# Altium footprint library Capy_extra.PcbLib: 7 footprints
Each footprint in its own frame and in the unit in brackets; x right, y up, seen from the top. Pads: shape width x height; smd on the part's side, far side on the other; paste and mask are expansions set on the pad; w line width, h text height; cw(c..) or ccw(c..) is an arc to the next point about the centre after c.
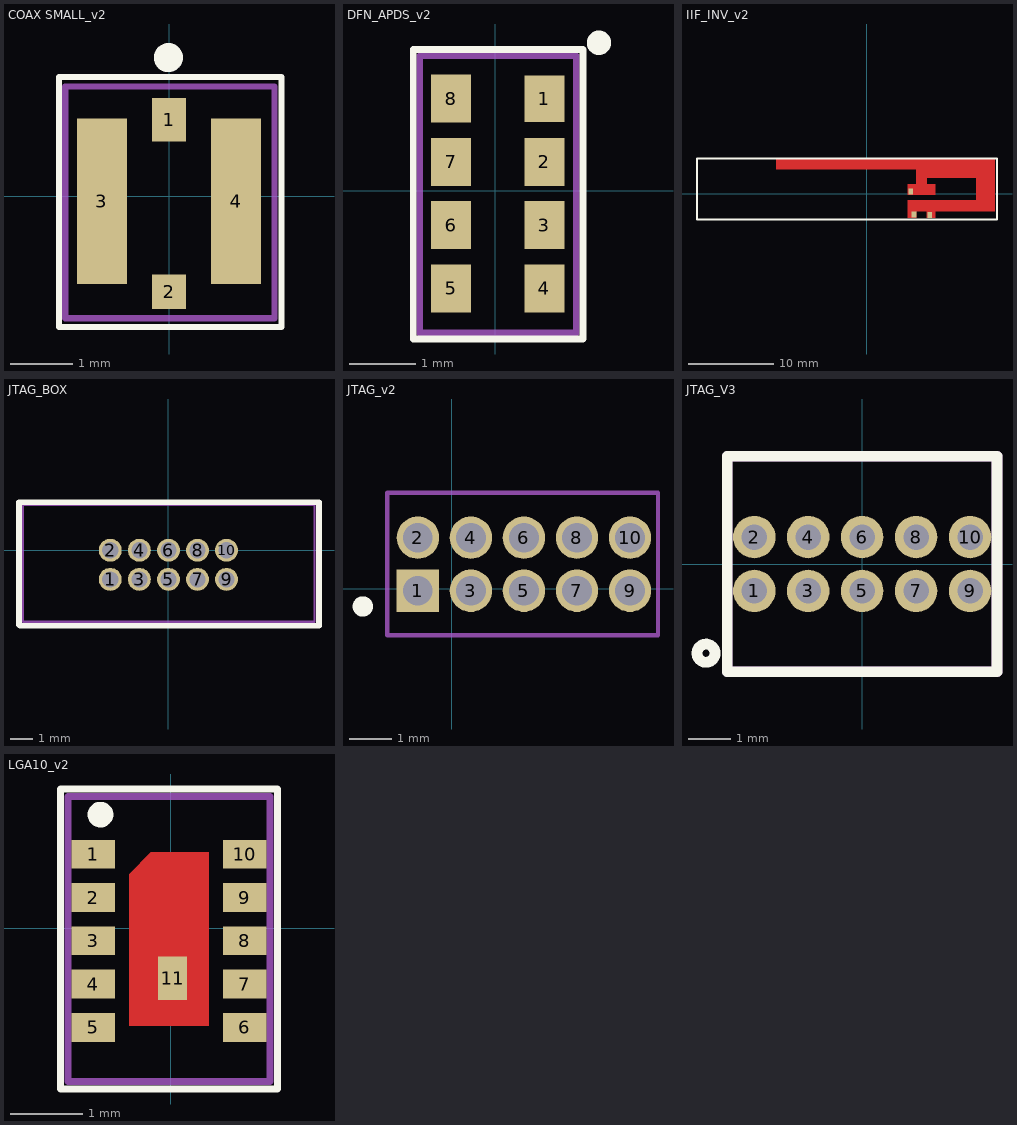
[diagram p0: the footprints below, top view; thin cyan lines are the x and y axes]

## COAX SMALL_v2 [mm] "MS-156HF"
pads (4):
  rect 0.55x0.7 smd: 1(0,1.225)
  rect 0.55x0.55 smd: 2(0,-1.525)
  rect 0.8x2.65 smd: 3(-1.075,-0.075) 4(1.075,-0.075)
Top Overlay:
  circle w0.254: c-0.01,2.22 r0.106
  lines w0.1: -1.76,-2.09 1.77,-2.09 1.8,-2.09 1.8,1.57 1.8,1.91 -1.76,1.91 -1.76,-1.59 -1.76,-2.09
Mechanical 13:
  lines w0.1: -1.66,-1.95 -1.66,1.76 1.47,1.76 1.69,1.76 1.69,-1.95 -1.66,-1.95
3D body: height 1.6, standoff 0, extent -1.6,-1.93 1.62,1.73

## DFN_APDS_v2 [mm] "DFN SMT 8 PIN"
pads (8):
  rect 0.6x0.7 smd paste+0 mask+0.05: 1(0.74,1.38)
  rect 0.6x0.72 smd paste+0 mask+0.05: 2(0.74,0.43) 3(0.74,-0.52) 4(0.74,-1.47)
  rect 0.6x0.72 smd mask+0.05: 5(-0.66,-1.47) 6(-0.66,-0.52) 7(-0.66,0.43) 8(-0.66,1.38)
Top Overlay:
  circle w0.254: c1.56,2.22 r0.057
  lines w0.1: -1.23,-2.23 1.32,-2.23 1.32,2.12 -1.23,2.12 -1.23,-2.23
Mechanical 13:
  lines w0.1: -1.13,-2.14 -1.13,2.025 1.22,2.025 1.22,-2.14 -1.13,-2.14
3D body: height 1.35, standoff 0, extent -1.1,-2.16 1.23,2.025

## IIF_INV_v2 [mm] "PCB antenna flipped"
pads (3):
  rect 0.55x0.7 smd paste-0.7 mask-0.7: 1(5.125,0.275) 2(7.35,-2.45) 3(5.525,-2.425)
Top Layer:
  region: 14.965,4.115 -10.615,4.115 -10.615,2.905 5.785,2.905 5.785,1.105 4.785,1.105 4.785,-0.105 7.985,-0.105 7.985,1.105 6.985,1.105 6.985,1.905 12.785,1.905 12.785,-0.765 4.785,-0.765 4.785,-2.795 5.785,-2.795 5.785,-2.055 6.985,-2.055 6.985,-2.795 7.985,-2.795 7.985,-2.055 14.965,-2.055
Top Overlay:
  lines w0.254: -19.875,4.025 -19.875,-2.975 15.225,-2.975 15.225,4.125 10.525,4.125 -19.875,4.125

## JTAG_BOX [mm]
pads (10):
  round 1 hole 0.7: 1(-2.54,-1.27) 2(-2.54,0) 3(-1.27,-1.27) 4(-1.27,0) 5(0,-1.27) 6(0,0) 7(1.27,-1.27) 8(1.27,0) 9(2.54,-1.27) 10(2.54,0)
Top Overlay:
  lines w0.25: -6.525,-3.25 -6.475,-3.3 6.575,-3.3 6.575,2.1 -6.525,2.1 -6.525,-3.25
Mechanical 1:
  lines w0.1: -6.35,-3.125 6.375,-3.125 6.375,1.975 -6.35,1.975 -6.35,-3.125
3D body: height 5.4, standoff 0, extent -6.35,-3.125 6.375,1.975

## JTAG_v2 [mm] "JTAG HDR 10pin"
pads (10):
  rect 1x1 hole 0.7: 1(-0.8,-0.05)
  round 1 hole 0.7: 2(-0.8,1.2) 3(0.45,-0.05) 4(0.45,1.2) 5(1.7,-0.05) 6(1.7,1.2) 7(2.95,-0.05) 8(2.95,1.2) 9(4.2,-0.05) 10(4.2,1.2)
Top Overlay:
  circle w0.254: c-2.1,-0.42 r0.112
Mechanical 13:
  lines w0.1: -1.52,-1.1 4.86,-1.1 4.86,2.26 -1.52,2.26 -1.52,-1.1
3D body: height 1, standoff 0, extent -1.52,-1.1 4.86,2.26

## JTAG_V3 [mm]
pads (10):
  round 1 hole 0.6: 1(-2.54,-0.635) 2(-2.54,0.635) 3(-1.27,-0.635) 4(-1.27,0.635) 5(0,-0.635) 6(0,0.635) 7(1.27,-0.635) 8(1.27,0.635) 9(2.54,-0.635) 10(2.54,0.635)
Top Overlay:
  circle w0.254: c-3.675,-2.1 r0.214
  lines w0.25: -3.175,-2.54 3.175,-2.54 3.175,2.54 -3.175,2.54 -3.175,-2.54
Mechanical 13:
  lines w0.25: -3.175,-2.54 3.175,-2.54 3.175,2.54 -3.175,2.54 -3.175,-2.54

## LGA10_v2 [mm]
pads (11):
  rect 0.6x0.4 smd paste+0 mask+0.05: 1(-1.075,1.025) 2(-1.075,0.425) 3(-1.075,-0.175) 4(-1.075,-0.775) 5(-1.075,-1.375) 6(1.025,-1.375) 7(1.025,-0.775) 8(1.025,-0.175) 9(1.025,0.425) 10(1.025,1.025)
  rect 0.4x0.6 smd paste-0.6 mask-0.6: 11(0.025,-0.695)
Top Layer:
  region: 0.525,-1.35 -0.575,-1.35 -0.575,0.75 -0.275,1.05 0.525,1.05
Top Overlay:
  circle w0.254: c-0.975,1.575 r0.05
  lines w0.1: -1.53,-2.23 1.48,-2.23 1.48,1.93 -1.53,1.93 -1.53,-2.23
Top Paste:
  rectangle: 0.125,-1.35 0.525,-0.425
  rectangle: -0.575,-1.35 -0.15,-0.425
  rectangle: -0.575,-0.175 -0.15,0.75
  rectangle: 0.1,-0.175 0.525,0.75
Top Solder:
  region: -0.275,1.1 0.55,1.1 0.575,1.075 0.575,-1.4 -0.625,-1.4 -0.625,0.75
Mechanical 13:
  lines w0.1: -1.425,-2.125 1.375,-2.125 1.375,1.825 -1.425,1.825 -1.425,1.325 -1.425,-1.675 -1.425,-2.125
3D body: height 1.1, standoff 0, extent -1.425,-2.125 1.375,1.825